# Altium schematic symbol library CYRF6936_QFN40.SchLib: 1 symbol
Pins are listed as number, name and electrical type; pins without a type are passive.

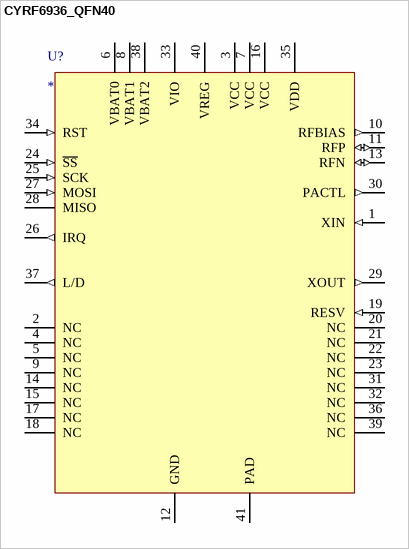
[diagram p0: symbol CYRF6936_QFN40]

## CYRF6936_QFN40
designator U?
pins: 1 XIN (in), 2 NC, 3 VCC (power), 4 NC, 5 NC, 6 VBAT0 (power), 7 VCC (power), 8 VBAT1 (power), 9 NC, 10 RFBIAS (out), 11 RFP (io), 12 GND (power), 13 RFN (io), 14 NC, 15 NC, 16 VCC (power), 17 NC, 18 NC, 19 RESV (in), 20 NC, 21 NC, 22 NC, 23 NC, 24 ~{SS} (in), 25 SCK (in), 26 IRQ (out), 27 MOSI (in), 28 MISO (hiz), 29 XOUT (out), 30 PACTL (out), 31 NC, 32 NC, 33 VIO (power), 34 RST (in), 35 VDD (power), 36 NC, 37 L/D (out), 38 VBAT2 (power), 39 NC, 40 VREG (power), 41 PAD (power)